# Altium schematic symbol library HW.SchLib: 328 symbols (part 3 of 10)
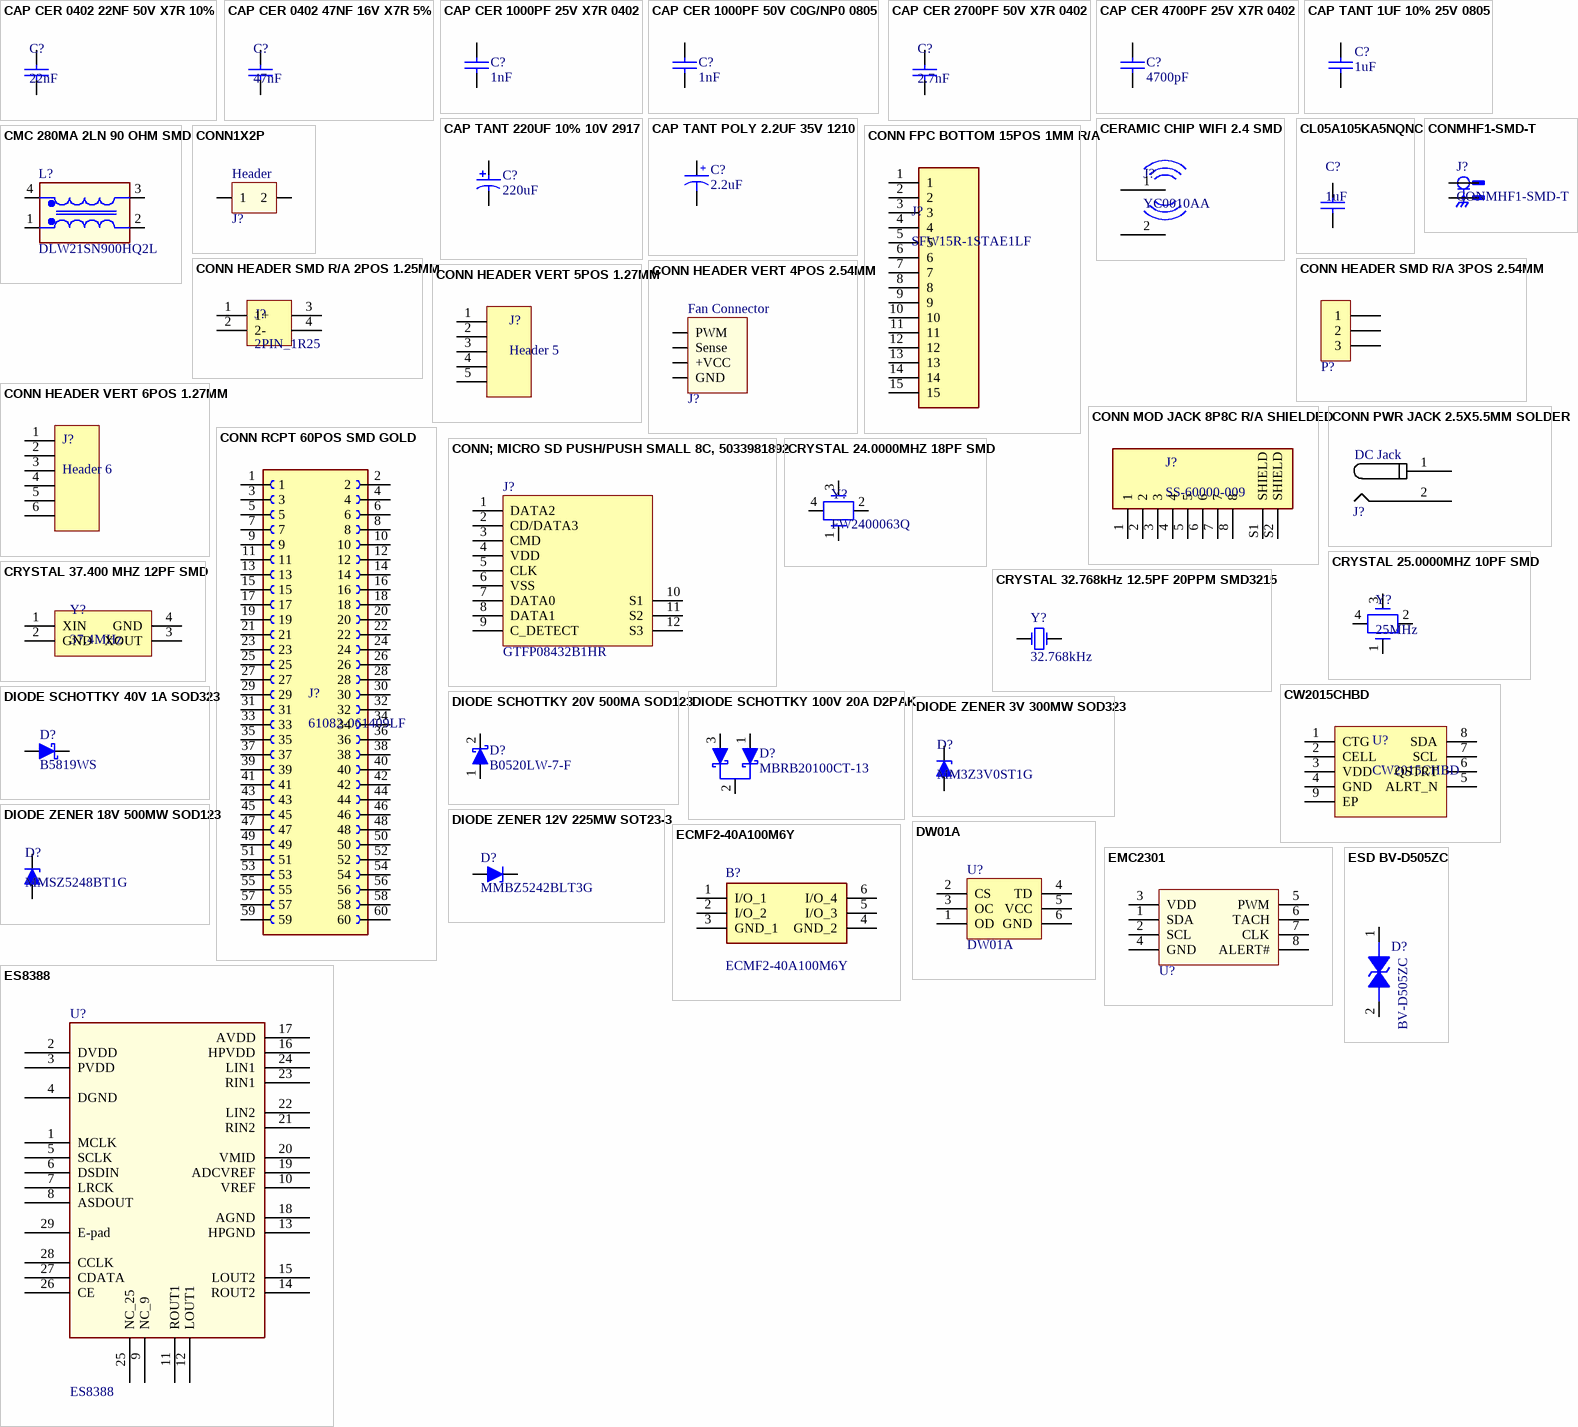
[diagram p25: symbols CAP CER 0402 22NF 50V X7R 10% to ESD BV-D505ZC]

## CAP CER 0402 22NF 50V X7R 10%
designator C?, comment 22nF
Multilayer Ceramic Capacitors MLCC - SMD/SMT 50V 0.022uF X7R 0402 10%; Manufacturer: KEMET; Manufacturer Part Number: C0402C223K5REC7411; Supplier 1: Digikey; RoHS: Yes; Category: Ceramic Capacitors; Stock 1: 6848; Pricing 1: 1=0.1, 10=0.066, 50=0.0382, 100=0.0296, 500=0.02228, 1000=0.0175, 2500=0.01591, 5000=0.01463 (USD); RoHS Compliant: Yes; ComponentLink1URL: https://api.kemet.com/component-edge/download/datasheet/C0402C223K5REC7411.pdf?src-supplier=Digikey; ComponentLink1Description: https://api.kemet.com/component-edge/download/datasheet/C0402C223K5REC7411.pdf?src-supplier=Digikey; Supplier Part Number 1: 399-C0402C223K5REC7411CT-ND
footprint C0402
pins: 1, 2

## CAP CER 0402 47NF 16V X7R 5%
designator C?, comment 47nF
Multilayer Ceramic Capacitors MLCC - SMD/SMT 16V 0.047uF X7R 0402 5% AEC-Q200; Manufacturer: KEMET; Manufacturer Part Number: C0402C473J4RECAUTO; Supplier 1: Digikey; RoHS: Yes; Category: Ceramic Capacitors; Stock 1: 7742; Pricing 1: 1=0.19, 10=0.127, 50=0.0758, 100=0.0596, 500=0.04406, 1000=0.03647, 2500=0.03394, 5000=0.03105 (USD); RoHS Compliant: Yes; ComponentLink1URL: https://api.kemet.com/component-edge/download/datasheet/C0402C473J4RECAUTO.pdf?src-supplier=Digikey; ComponentLink1Description: https://api.kemet.com/component-edge/download/datasheet/C0402C473J4RECAUTO.pdf?src-supplier=Digikey; Supplier Part Number 1: 399-C0402C473J4RECAUTOCT-ND
footprint C0402
pins: 1, 2

## CAP CER 1000PF 25V X7R 0402
designator C?, comment 1nF
CAP CER 1000PF 25V X7R 0402; Manufacturer PN: C0402C102J3RAC7867; Manufacturer: KEMET; JLCPCB PN: C3882120
footprint C0402 (Footprint not found)
pins: 1, 2

## CAP CER 1000PF 50V C0G/NP0 0805
designator C?, comment 1nF
50V 1nF X7R 0805 Multilayer Ceramic Capacitors MLCC - SMD/SMT ROHS; Manufacturer PN: FN21X102K500PXG; Manufacturer: Milliohm; JLCPCB PN: C2931457
footprint C0805B/2012MM (Chip Capacitor, 2-Leads, Body 2.0x1.3mm, IPC Medium Density)
pins: 1, 2

## CAP CER 2700PF 50V X7R 0402
designator C?, comment 2.7nF
Multilayer Ceramic Capacitor, 2700 pF, 50 V, ± 5%, X7R, 0402 [1005 Metric]; Manufacturer: Murata; Manufacturer Part Number: GRM155R71H272JA01D; Voltage Rating: 50V; Supplier 1: Mouser; RoHS: Yes; Category: Ceramic Capacitors; Stock 1: 68677; Pricing 1: 1=0.1, 10=0.019, 50=0.019, 100=0.011, 1000=0.008, 10000=0.005 (USD); Mount: Surface Mount; Case/Package: 0402; Case Code (Metric): 1005; Case Code (Imperial): 0402; Min Operating Temperature: -55°C; Max Operating Temperature: 125°C; Tolerance: 5%; Packaging: Cut Tape; Capacitance: 2.7nF; Voltage Rating (DC): 50V; Series: GRM; Length: 0.039inch; Width: 0.02inch; Thickness: 0.022inch; RoHS Compliant: Yes; ComponentLink1URL: https://search.murata.co.jp/Ceramy/image/img/A01X/G101/ENG/GRM155R71H272JA01-01.pdf?src-supplier=Digikey; ComponentLink1Description: https://search.murata.co.jp/Ceramy/image/img/A01X/G101/ENG/GRM155R71H272JA01-01.pdf?src-supplier=Digikey; Supplier Part Number 1: 81-GRM155R71H272JA1D
footprint C0402
pins: 1, 2

## CAP CER 4700PF 25V X7R 0402
designator C?, comment 4700pF
CAP CER 4700PF 25V X7R 0402; Manufacturer PN: CC0402JRX7R8BB472; Manufacturer: YAGEO; JLCPCB PN: C527005
footprint C0402 (Footprint not found)
pins: 1, 2

## CAP TANT 1UF 10% 25V 0805
designator C?, comment 1uF
1 µF Molded Tantalum Capacitors 25 V 0805 (2012 Metric) 8Ohm; Manufacturer PN: C3216X7R1E105KT000N; JLCPCB PN: C76660
footprint C0805B/2012MM (Chip Capacitor, 2-Leads, Body 2.0x1.3mm, IPC Medium Density)
pins: 1, 2

## CAP TANT 220UF 10% 10V 2917
designator C?, comment 220uF
Cap Tant Solid 220uF 10V D CASE 10% (7.3 X 4.3 X 2.8mm) SMD 7343-31 0.045 Ohm 125 C T/R; Manufacturer: KEMET; Manufacturer Part Number: T495D227K010ATE045; Supplier 1: Mouser; RoHS: Yes; Category: Tantalum Capacitors; Stock 1: 2387; Pricing 1: 1=2.87, 10=2.19, 50=2.03, 100=1.71, 1000=1.42, 10000=1.37 (USD); ComponentLink1URL: https://datasheet.ciiva.com/11793/0900766b812ba971-11793683.pdf?src-supplier=Rs; ComponentLink1Description: https://datasheet.ciiva.com/11793/0900766b812ba971-11793683.pdf?src-supplier=Rs; ComponentLink2URL: https://datasheet.ciiva.com/7668/kem-t2009-t495-7668188.pdf?src-supplier=Element14; ComponentLink2Description: https://datasheet.ciiva.com/7668/kem-t2009-t495-7668188.pdf?src-supplier=Element14; Supplier Part Number 1: 80-T495D227K10E045
footprint CAP_TANTAL_2917(7343-31) (Chip capacitor, Body 6.0x3.2mm, IPC High Density)
pins: 1, 2

## CAP TANT POLY 2.2UF 35V 1210
designator C?, comment 2.2uF
CAP TANT POLY 2.2UF 35V 1411; Manufacturer PN: TCJB225M035R0200E; Manufacturer: KYOCERA AVX; JLCPCB PN: C2158440
footprint CAP_TANT_TCJB225M035R0200E
pins: 1, 2
text: +

## CERAMIC CHIP WIFI 2.4 SMD
designator J?, comment YC0010AA
Antennas Embedded, 2400-2500 MHz, Wi-Fi (Bluetooth), Ceramic, -, -, SMD, 5.2 2.0 1.2; Manufacturer: Quectel Wireless Solutions; Supplier 1: Digikey; Manufacturer Part Number: YC0010AA; RoHS: No; Category: RF Antennas; Stock 1: 23380; Pricing 1: 1=0.55, 10=0.469, 25=0.4376, 100=0.35, 250=0.325, 500=0.275, 1000=0.2125 (USD); Supplier Part Number 1: 2958-YC0010AACT-ND
footprint YC0010AA
pins: 1 AT, 2 0

## CL05A105KA5NQNC
designator C?, comment 1uF
Multilayer Ceramic Capacitor, 1 uF, 25 V, ï¿½ 10%, X5R, 0402 [1005 Metric]; Manufacturer: Samsung; Manufacturer Part Number: CL05A105KA5NQNC; Voltage Rating: 25V; Supplier 1: Digikey; RoHS: Yes; Category: Ceramic Capacitors; Stock 1: 1895549; Pricing 1: 1=0.18, 10=0.124, 50=0.0742, 100=0.0584, 500=0.04312, 1000=0.0357, 2500=0.03323, 5000=0.0304 (USD); Mount: Surface Mount; Case/Package: 0402; Material: Ceramic; Case Code (Metric): 1005; Case Code (Imperial): 0402; Min Operating Temperature: -55°C; Max Operating Temperature: 85°C; Package Quantity: 10000; Series: CL; Capacitance: 1uF; Tolerance: 10%; Packaging: Tape and Reel; Dielectric: X5R; Construction: Flat; Length: 1mm; Width: 0.02inch; Height: 0.5mm; Thickness: 0.022inch; Depth: 0.5mm; Radiation Hardening: No; Lead Free: Lead Free; RoHS Compliant: Yes; ComponentLink1URL: https://datasheet.ciiva.com/25720/cl05a105ka5nqnc-25720771.pdf?src-supplier=Digikey; ComponentLink1Description: https://datasheet.ciiva.com/25720/cl05a105ka5nqnc-25720771.pdf?src-supplier=Digikey; ComponentLink2URL: https://datasheet.ciiva.com/3777/cl05a105ka5nqnc-3777709.pdf?src-supplier=Arrow+Electronics; ComponentLink2Description: https://datasheet.ciiva.com/3777/cl05a105ka5nqnc-3777709.pdf?src-supplier=Arrow+Electronics; ComponentLink3URL: https://datasheet.ciiva.com/29198/459147-da-01-en-vs-kondensator-0402-29198339.pdf?src-supplier=Conrad; ComponentLink3Description: https://datasheet.ciiva.com/29198/459147-da-01-en-vs-kondensator-0402-29198339.pdf?src-supplier=Conrad; Supplier Part Number 1: 1276-1445-1-ND
footprint C0402
pins: 1, 2

## CMC 280MA 2LN 90 OHM SMD
designator L?, comment DLW21SN900HQ2L
Ind Common Mode Choke Wirewound 90Ohm 25% 100MHz 280mA 0805 Embossed T/R; Manufacturer: Murata; Impedance: 90R; Number of Lines: 2; Shielding: Unshielded; DC Resistance (DCR): 410mR; Voltage Rating (DC): 20V; Supplier 1: Arrow Electronics; Manufacturer Part Number: DLW21SN900HQ2L; RoHS: Yes; Category: Common Mode Chokes; Stock 1: 18000; Pricing 1: 2000=0.2295, 4000=0.2273, 6000=0.225, 10000=0.2175, 24000=0.2153, 50000=0.2148 (USD); Mount: Surface Mount; Case/Package: 0805; Weight: 0.000388oz; Case Code (Imperial): 0805; Min Operating Temperature: -40°C; Max Operating Temperature: 85°C; Tolerance: 25%; Package Quantity: 1; Packaging: Tape and Reel; Current Rating: 280mA; Current: 280mA; Max DC Current: 280mA; Termination: SMD/SMT; Test Frequency: 100MHz; DC Current: 280mA; Series: EMIFIL®, DLW21S; Max Current Rating: 280mA; Length: 2mm; Width: 0.047inch; Height: 0.055inch; Depth: 1.2mm; Radiation Hardening: No; Military Standard: Not; Reach SVHC Compliant: No; Lead Free: Lead Free; RoHS Compliant: Yes; ComponentLink1URL: https://datasheet.ciiva.com/3068/l0114s0133dlw21s-3068656.pdf?src-supplier=Avnet; ComponentLink1Description: https://datasheet.ciiva.com/3068/l0114s0133dlw21s-3068656.pdf?src-supplier=Avnet; ComponentLink2URL: https://datasheet.ciiva.com/6216/l0114e-6216255.pdf?src-supplier=Digi-Key; ComponentLink2Description: https://datasheet.ciiva.com/6216/l0114e-6216255.pdf?src-supplier=Digi-Key; ComponentLink3URL: https://datasheet.ciiva.com/4952/muratadl-plseries-202927-4952310.pdf?src-supplier=Mouser; ComponentLink3Description: https://datasheet.ciiva.com/4952/muratadl-plseries-202927-4952310.pdf?src-supplier=Mouser; ComponentLink4URL: https://datasheet.ciiva.com/18183/getdatasheetpartid-228875-18183367.pdf?src-supplier=Verical; ComponentLink4Description: https://datasheet.ciiva.com/18183/getdatasheetpartid-228875-18183367.pdf?src-supplier=Verical; Supplier Part Number 1: DLW21SN900HQ2L
footprint IND_DLW21S_0805_MUR
pins: 1, 2, 3, 4

## CONMHF1-SMD-T
designator J?
U.FL/MHF1 Jack 50 Ohm PCB Surface Mount; MF: Linx Technologies Inc.; SnapEDA_Link: https://www.snapeda.com/parts/CONMHF1-SMD-T/Linx/view-part/?ref=snap; Package: None; Value: *; MP: CONMHF1-SMD-T; Check_prices: https://www.snapeda.com/parts/CONMHF1-SMD-T/Linx/view-part/?ref=eda
footprint LINX_CONMHF1-SMD-T
pins: 1, S1 2, S2 2, S3 2

## CONN1X2P
designator J?, comment Header
Header 1x2P; Part Number: CO0012; ManfactPart: G800W306018EU; ID: 12; RefVal: Header
footprint 1X2P_2.54mm
pins: 1, 2

## CONN FPC BOTTOM 15POS 1MM R/A
designator J?, comment SFW15R-1STAE1LF
Conn FFC/FPC Connector SKT 15 POS 1mm Solder RA SMD Embossed T/R; Manufacturer: Amphenol ICC / FCI; Actuator Material: Glass,Polyphenylene; Voltage Rating (AC): 100V; Current Rating: 1A; Number of Positions: 15; Contact Location: Bottom; Insulation Resistance: 500MR; Supplier 1: Digikey; Manufacturer Part Number: SFW15R-1STAE1LF; RoHS: Yes; Category: FFC / FPC; Stock 1: 4328; Pricing 1: 1=0.98, 10=0.745, 25=0.6696, 50=0.6184, 100=0.5716, 250=0.51616, 500=0.47868, 1000=0.44462 (USD); Mount: Surface Mount; Contact Material: Bronze; Contact Plating: Gold; Housing Color: Brown; Housing Material: Polyphenylene; Min Operating Temperature: -55°C; Max Operating Temperature: 105°C; Packaging: Tape and Reel; Package Quantity: 2000; Number of Rows: 1; Voltage Rating: 100V; Termination: Solder; Number of Contacts: 15; Orientation: Right Angle; Series: SFW-R; Length: 20.8mm; Pitch: 1mm; Depth: 5.5mm; Flammability Rating: UL94 V-0; RoHS Compliant: Yes; ComponentLink1URL: https://datasheet.ciiva.com/18564/sfw12alf-18564188.pdf?src-supplier=Digikey; ComponentLink1Description: https://datasheet.ciiva.com/18564/sfw12alf-18564188.pdf?src-supplier=Digikey; ComponentLink2URL: https://datasheet.ciiva.com/10368/sfw12alf-10368693.pdf?src-supplier=Avnet; ComponentLink2Description: https://datasheet.ciiva.com/10368/sfw12alf-10368693.pdf?src-supplier=Avnet; Supplier Part Number 1: 609-SFW15R-1STAE1LFCT-ND
footprint AMPHENOL_SFW15R-3STAE5LF
pins: 1, 2, 3, 4, 5, 6, 7, 8, 9, 10, 11, 12, 13, 14, 15

## CONN HEADER SMD R/A 2POS 1.25MM
designator J?, comment 2PIN_1R25
Conn Shrouded Header (4 Sides) HDR 2 POS 1.25mm Solder RA Side Entry SMD T/R; Manufacturer: Amphenol ICC / FCI; Manufacturer Part Number: 10114830-10102LF; Supplier 1: Avnet; RoHS: No; Category: Connectors; Stock 1: 3; Pricing 1: 1=0.256 (USD); ComponentLink1URL: https://datasheet.ciiva.com/18670/125-wtb-datasheet-18670122.pdf?src-supplier=Digikey; ComponentLink1Description: https://datasheet.ciiva.com/18670/125-wtb-datasheet-18670122.pdf?src-supplier=Digikey; ComponentLink2URL: https://datasheet.ciiva.com/8046/1581884-8046342.pdf?src-supplier=Element14; ComponentLink2Description: https://datasheet.ciiva.com/8046/1581884-8046342.pdf?src-supplier=Element14; Supplier Part Number 1: 65AC3124
pins: 1 1+, 2 2-, 3, 4

## CONN HEADER SMD R/A 3POS 2.54MM
designator P?, comment BG301-03-A-0540-L-B  (value not drawn)
Board to Board & Mezzanine Connectors 3w, 2.54mm Pth Header, SIL, SMT, Horiz, GF, LCP Natural, T+R+C; Manufacturer: Global Connector Technology; Supplier 1: Newark; Manufacturer Part Number: BG301-03-A-0540-L-B; RoHS: Yes; Category: Connectors; Stock 1: 130; Pricing 1: 10=0.584, 25=0.529, 50=0.476, 100=0.457, 250=0.421, 500=0.403 (USD); ComponentLink1URL: http://www.farnell.com/datasheets/1913461.pdf?src-supplier=Farnell; ComponentLink1Description: http://www.farnell.com/datasheets/1913461.pdf?src-supplier=Farnell; ComponentLink2URL: https://datasheet.octopart.com/BG301-03-A-0540-L-B-Global-Connector-Technology-datasheet-77992236.pdf?src-supplier=Future+Electronics; ComponentLink2Description: https://datasheet.octopart.com/BG301-03-A-0540-L-B-Global-Connector-Technology-datasheet-77992236.pdf?src-supplier=Future+Electronics; ComponentLink3URL: http://www.gct.co/pcb-board-to-board/pdf/BG301.pdf?src-supplier=Future+Electronics; ComponentLink3Description: http://www.gct.co/pcb-board-to-board/pdf/BG301.pdf?src-supplier=Future+Electronics; ComponentLink4URL: https://gct.co/files/drawings/bg301.pdf?src-supplier=Digikey; ComponentLink4Description: https://gct.co/files/drawings/bg301.pdf?src-supplier=Digikey; ComponentLink5URL: https://datasheet.octopart.com/BG301-03-A-0540-L-B-Global-Connector-Technology-datasheet-41230415.pdf?src-supplier=Element14; ComponentLink5Description: https://datasheet.octopart.com/BG301-03-A-0540-L-B-Global-Connector-Technology-datasheet-41230415.pdf?src-supplier=Element14; ComponentLink6URL: https://datasheet.octopart.com/BG301-03-A-0540-L-B-Global-Connector-Technology-datasheet-32014451.pdf?src-supplier=Sager+Electronics; ComponentLink6Description: https://datasheet.octopart.com/BG301-03-A-0540-L-B-Global-Connector-Technology-datasheet-32014451.pdf?src-supplier=Sager+Electronics; Supplier Part Number 1: 24AC7639
footprint HDR1X3 (Connector; Header; 3 Position)
pins: 1, 2, 3

## CONN HEADER VERT 4POS 2.54MM
designator J?, comment Fan Connector
KK 254 Vertical Header, with Friction Lock, 4 Circuits, PC Tail Length 3.50mm, Bag; Part Number: CO0010; ManfactPart: 470531000; Manufacturer: Molex; Manufacturer Part Number: 47053-1000; ID: 10; Plating: 151ConductorMaterial; Current Rating: 4A; Voltage Rating: 250V; Number of Positions: 4; Gender: Male; Pitch: 2.54mm; Glow Wire Compliant: Non-compliant; Supplier 1: Mouser; RoHS: Yes; Category: Headers and Wire Housings; Stock 1: 20373; Pricing 1: 1=0.55, 10=0.486, 50=0.486, 100=0.401, 1000=0.287, 10000=0.253 (USD); Mount: Through Hole; Contact Material: Brass,Copper; Contact Plating: Tin; Housing Color: Beige; Housing Material: Nylon; Min Operating Temperature: 0°C; Max Operating Temperature: 75°C; Number of Rows: 1; Packaging: Bulk; Package Quantity: 12000; Termination: Through Hole; Number of Contacts: 4; Orientation: Vertical; Voltage Rating (DC): 250V; Number of Circuits: 4; Series: 47053; Length: 10.2mm; Depth: 5.84mm; Halogen Free: Low Halogen; RoHS Compliant: Yes; Reach SVHC Compliant: Unknown; Supplier Part Number 1: 538-47053-1000; RefVal: Fan Connector
footprint 470531000
pins: 1 PWM, 2 Sense, 3 +VCC (power), 4 GND (power)

## CONN HEADER VERT 5POS 1.27MM
designator J?, comment Header 5
Conn Unshrouded HDR 5 POS 1.27mm Solder ST Thru-Hole Box; Manufacturer: Harwin; Manufacturer Part Number: M50-3530542; Number of Positions: 5; Current Rating: 1A; Supplier 1: Digikey; RoHS: Yes; Category: Connectors; Stock 1: 4810; Pricing 1: 1=0.27, 10=0.232, 100=0.1786, 500=0.1511, 1000=0.12362, 5000=0.10989, 10000=0.09959 (USD); Mount: Through Hole; Contact Material: Brass; Contact Shape: Square; Insulation Material: Nylon; Insulation Color: Black; Contact Finish - Mating: GOLD; Min Operating Temperature: -40°C; Max Operating Temperature: 105°C; Connector Type: Header; Fastening Type: Pull; Packaging: Bulk; Number of Rows: 1; Termination: Solder; Series: Archer M50; Contact Type: Male Pin; Flammability Rating: UL94 V-0; RoHS Compliant: Yes; ComponentLink1URL: https://cdn.harwin.com/pdfs/Harwin_PC_Connectors_Archer.pdf?src-supplier=Digikey; ComponentLink1Description: https://cdn.harwin.com/pdfs/Harwin_PC_Connectors_Archer.pdf?src-supplier=Digikey; Supplier Part Number 1: 952-3601-ND
footprint HARWIN_M50-3530542
pins: 1, 2, 3, 4, 5

## CONN HEADER VERT 6POS 1.27MM
designator J?, comment Header 6
Conn Unshrouded Header HDR 6 POS 1.27mm Solder ST Thru-Hole Box; Manufacturer: Harwin; Manufacturer Part Number: M50-3530642; Number of Positions: 6; Supplier 1: Digikey; RoHS: Yes; Category: Headers and Wire Housings; Stock 1: 14668; Pricing 1: 1=0.29, 10=0.245, 100=0.1905, 500=0.16332, 1000=0.1361, 5000=0.11666, 10000=0.10888 (USD); Mount: Through Hole; Contact Material: Brass; Contact Shape: Square; Contact Finish - Mating: GOLD; Insulation Material: Nylon; Insulation Color: Black; Min Operating Temperature: -40°C; Max Operating Temperature: 105°C; Connector Type: Header; Fastening Type: Pull; Series: Archer M50; Packaging: Bulk; Contact Type: Male Pin; Number of Rows: 1; Termination: Solder; RoHS Compliant: Yes; Flammability Rating: UL94 V-0; ComponentLink1URL: https://cdn.harwin.com/pdfs/Harwin_PC_Connectors_Archer.pdf?src-supplier=Digikey; ComponentLink1Description: https://cdn.harwin.com/pdfs/Harwin_PC_Connectors_Archer.pdf?src-supplier=Digikey; Supplier Part Number 1: 952-3602-ND
footprint HARWIN_M50-3530642
pins: 1, 2, 3, 4, 5, 6

## CONN MOD JACK 8P8C R/A SHIELDED
designator J?, comment SS-60000-009
Modular Connectors / Ethernet Connectors RJ45 Connector; Manufacturer: Bel; Voltage Rating: 150V; Current Rating: 1.5A; Supplier 1: Arrow Electronics; Manufacturer Part Number: SS-60000-009; RoHS: Yes; Category: Modular / Ethernet Connectors; Stock 1: 50; Pricing 1: 1=3.68, 10=3.647, 25=3.613, 50=3.579 (USD); Material: 4896ConductorMaterial; Insulation Material: 4896ConductorMaterial; Lead Free: 5697LeadFree; ComponentLink1URL: https://datasheet.ciiva.com/14118/ss-60000-009-eng-tds-14118903.pdf?src-supplier=Distrelec; ComponentLink1Description: https://datasheet.ciiva.com/14118/ss-60000-009-eng-tds-14118903.pdf?src-supplier=Distrelec; ComponentLink2URL: https://datasheet.ciiva.com/9394/ct600024-9394157.pdf?src-supplier=Avnet; ComponentLink2Description: https://datasheet.ciiva.com/9394/ct600024-9394157.pdf?src-supplier=Avnet; ComponentLink3URL: https://datasheet.ciiva.com/11726/0900766b80b1ed68-11726072.pdf?src-supplier=Rs; ComponentLink3Description: https://datasheet.ciiva.com/11726/0900766b80b1ed68-11726072.pdf?src-supplier=Rs; Supplier Part Number 1: SS-60000-009
footprint BEL_SS-60000-009
pins: 1, 2, 3, 4, 5, 6, 7, 8, S1 SHIELD, S2 SHIELD

## CONN PWR JACK 2.5X5.5MM SOLDER
designator J?, comment RefVal: DC Jack  (hidden comment: PJ-082BH)
2.5 x 6.5 mm, 10.0 A, Horizontal, Through Hole, Shielded, Dc Power Jack Connector; Part Number: CO0015; Manufacturer: CUI Devices; ID: 22; Body Color: Black; Gender: Male; ManfactPart: PJ-082BH; Supplier 1: Digikey; Manufacturer Part Number: PJ-082BH; RoHS: Yes; Category: Power Connectors; Stock 1: 7429; Pricing 1: 1=1.94, 10=1.69, 25=1.618, 50=1.582, 100=1.5102 (USD); Mount: Through Hole; Contact Plating: Silver; Contact Material: Brass; Housing Material: Nylon; Min Operating Temperature: -25°C; Max Operating Temperature: 85°C; Connector Type: Jack; Termination: Solder; Shielding: Shielded; Series: -; Flammability Rating: UL94 V-0; ComponentLink1URL: https://www.cuidevices.com/product/resource/digikeypdf/pj-082bh.pdf?src-supplier=Digikey; ComponentLink1Description: https://www.cuidevices.com/product/resource/digikeypdf/pj-082bh.pdf?src-supplier=Digikey; ComponentLink2URL: https://datasheet.octopart.com/PJ-082BH-CUI-Devices-datasheet-169018902.pdf?src-supplier=Future+Electronics; ComponentLink2Description: https://datasheet.octopart.com/PJ-082BH-CUI-Devices-datasheet-169018902.pdf?src-supplier=Future+Electronics; Supplier Part Number 1: CP-082BHCT-ND
footprint PJ-082BH
pins: 1, 2

## CONN RCPT 60POS SMD GOLD
designator J?, comment 61082-061409LF
BergStakÂ® 0.80mm Pitch, Receptacle, Vertical, Double Row, 60 Positions.; MF: Amphenol ICC; SnapEDA_Link: https://www.snapeda.com/parts/61082-061409LF/Amphenol+FCI/view-part/?ref=snap; Package: None; Value: *; MP: 61082-061409LF; Check_prices: https://www.snapeda.com/parts/61082-061409LF/Amphenol+FCI/view-part/?ref=eda
footprint AMPHENOL_61082-061409LF
pins: 1, 2, 3, 4, 5, 6, 7, 8, 9, 10, 11, 12, 13, 14, 15, 16, 17, 18, 19, 20, 21, 22, 23, 24, 25, 26, 27, 28, 29, 30, 31, 32, 33, 34, 35, 36, 37, 38, 39, 40, 41, 42, 43, 44, 45, 46, 47, 48, 49, 50, 51, 52, 53, 54, 55, 56, 57, 58, 59, 60

## CONN; MICRO SD PUSH/PUSH SMALL 8C, 5033981892
designator J?, comment GTFP08432B1HR
MICRO SD PUSH/PUSH SMALL 8C; MANUFACTURER1: Amphenol ICC (Commercial Products); Current Rating: 500 mA; Voltage Rating: 10 VAC/DC; Supplier 1: Digi-Key; Stock 1: 31804; Pricing 1: 1=2.53, 10=2.292, 25=2.1516, 50=2.0582, 100=1.9647, 250=1.7776, 500=1.6372, 1000=1.4033 (USD); Product Category: Memory Card Connectors; RoHS: Details; Category: CONN; Packaging: Reel; Series: 503398; Factory Pack Quantity: 2400; MANUFACTURER1_PART#: GTFP08432B1HR; ComponentLink2URL: https://datasheet.ciiva.com/16655/5033981892-memory-card-socket-16655604.pdf; LINK: https://www.digikey.com/en/products/detail/amphenol-icc-commercial-products/GTFP08432B1HR/13683218?s=N4IgTCBcDaIOIBUBiAFADADgCwGYwCEBGACQCUQBdAXyA; ComponentLink3URL: https://datasheet.ciiva.com/29723/5033981892-sd-29723401.pdf; ComponentLink3Description: https://datasheet.ciiva.com/29723/5033981892-sd-29723401.pdf; ComponentLink4URL: https://datasheet.ciiva.com/22744/1740946-22744573.pdf; ComponentLink4Description: https://datasheet.ciiva.com/22744/1740946-22744573.pdf; Supplier Part Number 1: WM11190CT-ND
footprint AMPHENOL_GTFP08432B1HR
pins: 1 DATA2, 2 CD/DATA3, 3 CMD, 4 VDD, 5 CLK, 6 VSS, 7 DATA0, 8 DATA1, 9 C_DETECT, 10 S1, 11 S2, 12 S3

## CRYSTAL 24.0000MHZ 18PF SMD
designator Y?, comment FW2400063Q
Crystal 24MHz ±15ppm (Tol) ±50ppm (Stability) 18pF FUND 120Ohm 4-Pin Mini-CSMD; Manufacturer: Diodes; Supplier 1: Arrow Electronics; Manufacturer Part Number: FW2400063Q; RoHS: No; Category: LDO; Stock 1: 6000; Pricing 1: 3000=0.4034, 6000=0.3986, 9000=0.3867, 15000=0.3775, 24000=0.3713 (USD); Supplier Part Number 1: FW2400063Q
footprint XC2016
pins: 1, 2, 3, 4

## CRYSTAL 25.0000MHZ 10PF SMD
designator Y?, comment 25MHz
Crystal 25MHz ±25ppm (Tol) ±50ppm (Stability) 10pF FUND 100Ohm Automotive 4-Pin Mini-SMD T/R; Manufacturer: ECS International; Manufacturer Part Number: ECS-250-10-37Q-AES-TR; Supplier 1: Digikey; RoHS: Yes; Category: Crystals; Stock 1: 2304; Pricing 1: 1=0.92, 10=0.813, 50=0.76, 100=0.6716, 500=0.6363, 1000=0.53025 (USD); ComponentLink1URL: https://www.ecsxtal.com/store/pdf/ECX-1637Q.pdf?src-supplier=Digikey; ComponentLink1Description: https://www.ecsxtal.com/store/pdf/ECX-1637Q.pdf?src-supplier=Digikey; ComponentLink2URL: https://datasheet.octopart.com/ECS-250-10-37Q-AES-TR-ECS-International-datasheet-130008821.pdf?src-supplier=Master+Electronics; ComponentLink2Description: https://datasheet.octopart.com/ECS-250-10-37Q-AES-TR-ECS-International-datasheet-130008821.pdf?src-supplier=Master+Electronics; Supplier Part Number 1: XC2425CT-ND
footprint XC2016
pins: 1, 2, 3, 4

## CRYSTAL 32.768kHz 12.5PF 20PPM SMD3215
designator Y?, comment 32.768kHz
FC-135 Series 32.768 kHz ±20 ppm 9 pF -40 to +85 °C Surface Mount Crystal; Manufacturer: Seiko Epson; Manufacturer PN: FC-135 32.7680KA-A; Manufacturer Part Number: FC-135 32.7680KA-AC0; Datasheet Link: https://datasheet.lcsc.com/lcsc/2304140030_Seiko-Epson-FC-135-32-7680KA-A_C1669857.pdf; Distributor: LCSC; Distributor PN: C1669857; Price: $0.2274; Sale Link: https://www.lcsc.com/product-detail/Crystals_Seiko-Epson-FC-135-32-7680KA-A_C1669857.html; Value: 32.768kHz; Supplier 1: Digikey; RoHS: Yes; Category: Crystals; Stock 1: 148705; Pricing 1: 1=0.61, 10=0.505, 50=0.4544, 100=0.404, 500=0.3838 (USD); ComponentLink1URL: https://support.epson.biz/td/api/doc_check.php?dl=brief_FC-135&amp;lang=en&src-supplier=Digikey; ComponentLink1Description: https://support.epson.biz/td/api/doc_check.php?dl=brief_FC-135&amp;lang=en&src-supplier=Digikey; Supplier Part Number 1: SER4084CT-ND
footprint CRYSTALL_SMD_3215
pins: 1 OSC1, 2 OSC2

## CRYSTAL 37.400 MHZ 12PF SMD
designator Y?, comment 37.4MHz
Crystals 37.400 MHz 12pF ECX-1637B +/-10/10 ppm -30 - +85C +/-1 ppm Aging 2016 4-SMD RoHS; Manufacturer: ECS International; Manufacturer Part Number: ECS-374-12-37B-CKY-TR; Supplier 1: Mouser; RoHS: No; Category: Uncategorized; Stock 1: 550; Pricing 1: 1=0.51, 10=0.425, 50=0.425, 100=0.34, 1000=0.272, 10000=0.238 (USD); Supplier Part Number 1: 520-374-12-37B-CKYTR
footprint XC2016
pins: 1 XIN, 2 GND, 3 XOUT, 4 GND

## CW2015CHBD
designator U?
footprint TDFN 2x3-8L
pins: 1 CTG, 2 CELL, 3 VDD, 4 GND, 5 ALRT_N, 6 QSTRT, 7 SCL, 8 SDA, 9 EP

## DIODE SCHOTTKY 20V 500MA SOD123
designator D?, comment B0520LW-7-F
DIODE SCHOTTKY 20V 500MA SOD123; Manufacturer: Diodes Incorporated; Manufacturer PN: B0520LW-7-F; JLCPCB PN: C155367
footprint DIO_SCHOTT_B0520LW-7-F
pins: 1 A, 2 C

## DIODE SCHOTTKY 40V 1A SOD323
designator D?, comment B5819WS
Rectifier Diode, Schottky, 1 Phase, 1 Element, 1A, 40V V(RRM), Silicon; Manufacturer: MCC; Manufacturer Part Number: B5819WS-TP; Max Surge Current: 10A; Forward Voltage: 900mV; Max Reverse Leakage Current: 1mA; Capacitance: 48pF; Max Reverse Current: 7uA; Supplier 1: Arrow Electronics; RoHS: Yes; Category: Rectifier Diodes; Stock 1: 75000; Pricing 1: 3000=0.0241 (USD); Mount: Surface Mount; Number of Pins: 2; Min Operating Temperature: -65°C; Max Operating Temperature: 125°C; Packaging: Tape and Reel; Average Rectified Current: 1A; Peak Non-Repetitive Surge Current: 10A; Max Reverse Voltage (DC): 40V; Series: -; Forward Current: 1A; Max Forward Surge Current (Ifsm): 10A; Reverse Voltage: 40V; Height: 1.15mm; Radiation Hardening: No; RoHS Compliant: Yes; Lead Free: Lead Free; ComponentLink1URL: https://datasheet.ciiva.com/4715/b5817ws-b5819wssod-323-48861-4715941.pdf?src-supplier=Mouser; ComponentLink1Description: https://datasheet.ciiva.com/4715/b5817ws-b5819wssod-323-48861-4715941.pdf?src-supplier=Mouser; ComponentLink2URL: https://datasheet.ciiva.com/15200/getdatasheetpartid-184930-15200423.pdf?src-supplier=Verical; ComponentLink2Description: https://datasheet.ciiva.com/15200/getdatasheetpartid-184930-15200423.pdf?src-supplier=Verical; ComponentLink3URL: https://datasheet.ciiva.com/912/b5817ws-b5819wssod-323-912736.pdf?src-supplier=Digikey; ComponentLink3Description: https://datasheet.ciiva.com/912/b5817ws-b5819wssod-323-912736.pdf?src-supplier=Digikey; ComponentLink4URL: https://datasheet.ciiva.com/912/b5817ws-b5819wssod-323-912737.pdf?src-supplier=Digikey; ComponentLink4Description: https://datasheet.ciiva.com/912/b5817ws-b5819wssod-323-912737.pdf?src-supplier=Digikey; ComponentLink5URL: https://datasheet.ciiva.com/912/b5817ws-b5819wssod-323-912735.pdf?src-supplier=Digikey; ComponentLink5Description: https://datasheet.ciiva.com/912/b5817ws-b5819wssod-323-912735.pdf?src-supplier=Digikey; Supplier Part Number 1: B5819WS-TP
footprint SOD-323 (diode)
pins: 1 A, 2 C

## DIODE SCHOTTKY 100V 20A D2PAK
designator D?, comment MBRB20100CT-13
DIODE SCHOTTKY 100V 20A D2PAK; Manufacturer: Diodes Incorporated; Manufacturer PN: MBRB20100CT-13; JLCPCB PN: C460888
footprint DIO_SCHOTT_MBRB20100CT-13
pins: 1 A1, 2 C, 3 A2

## DIODE ZENER 3V 300MW SOD323
designator D?, comment MM3Z3V0ST1G
MMBZ5243BL Series 225 mW 10 mA 13 V SMT Zener Voltage Regulator - SOT-23-3; Manufacturer: ON Semiconductor; Manufacturer Part Number: MMBZ5243BLT1G; Supplier 1: Future Electronics; RoHS: Yes; Category: Zener Diodes; Stock 1: 42000; Pricing 1: 3000=0.0145, 12000=0.0139, 30000=0.0135, 75000=0.0131, 120000=0.0125 (USD); ComponentLink1URL: https://datasheet.ciiva.com/30478/0900766b81276aeb-30478402.pdf?src-supplier=Rs; ComponentLink1Description: https://datasheet.ciiva.com/30478/0900766b81276aeb-30478402.pdf?src-supplier=Rs; ComponentLink2URL: https://datasheet.ciiva.com/15142/getdatasheetpartid-86847-15142523.pdf?src-supplier=Verical; ComponentLink2Description: https://datasheet.ciiva.com/15142/getdatasheetpartid-86847-15142523.pdf?src-supplier=Verical; ComponentLink3URL: https://datasheet.ciiva.com/8347/mmbz5221blt1-d-8347766.pdf?src-supplier=Avnet; ComponentLink3Description: https://datasheet.ciiva.com/8347/mmbz5221blt1-d-8347766.pdf?src-supplier=Avnet; ComponentLink4URL: https://datasheet.ciiva.com/10630/mmbz5221blt1-d-10630262.pdf?src-supplier=Avnet; ComponentLink4Description: https://datasheet.ciiva.com/10630/mmbz5221blt1-d-10630262.pdf?src-supplier=Avnet; ComponentLink5URL: https://datasheet.ciiva.com/894/mmbz5221blt1-d-894818.pdf?src-supplier=Digikey; ComponentLink5Description: https://datasheet.ciiva.com/894/mmbz5221blt1-d-894818.pdf?src-supplier=Digikey; ComponentLink6URL: https://datasheet.ciiva.com/894/mmbz5221blt1-d-894819.pdf?src-supplier=Digikey; ComponentLink6Description: https://datasheet.ciiva.com/894/mmbz5221blt1-d-894819.pdf?src-supplier=Digikey; ComponentLink7URL: https://datasheet.ciiva.com/894/mmbz5221blt1-d-894820.pdf?src-supplier=Digikey; ComponentLink7Description: https://datasheet.ciiva.com/894/mmbz5221blt1-d-894820.pdf?src-supplier=Digikey; ComponentLink8URL: https://datasheet.ciiva.com/22626/1707240-22626952.pdf?src-supplier=Element14; ComponentLink8Description: https://datasheet.ciiva.com/22626/1707240-22626952.pdf?src-supplier=Element14; ComponentLink9URL: https://datasheet.ciiva.com/8027/1707240-8027055.pdf?src-supplier=Element14; ComponentLink9Description: https://datasheet.ciiva.com/8027/1707240-8027055.pdf?src-supplier=Element14; Supplier Part Number 1: 8159884
footprint SOD-323 (diode)
pins: 1 A, 2 C

## DIODE ZENER 12V 225MW SOT23-3
designator D?, comment MMBZ5242BLT3G
Diode Zener Single 12V 5% 300mW 3-Pin SOT-23 T/R; Manufacturer: ON Semiconductor; Max Power Dissipation: 225mW; Impedance: 30R; Max Reverse Leakage Current: 1uA; Supplier 1: Future Electronics; Manufacturer Part Number: MMBZ5242BLT3G; RoHS: Yes; Category: Zener Diodes; Stock 1: 60000; Pricing 1: 10000=0.0149, 30000=0.0143, 40000=0.0142, 100000=0.0138, 150000=0.0134 (USD); Case/Package: SOT-23-3; Number of Pins: 3; Min Operating Temperature: -65°C; Max Operating Temperature: 150°C; Package Quantity: 10000; Packaging: Tape and Reel; Zener Voltage: 12V; Voltage Tolerance: 5%; Power Dissipation: 300mW; Tolerance: 5%; Series: Automotive, AEC-Q101; Lead Free: Lead Free; RoHS Compliant: Yes; ComponentLink1URL: https://datasheet.ciiva.com/24020/mmbz5221blt1-d-24020127.pdf?src-supplier=Mouser; ComponentLink1Description: https://datasheet.ciiva.com/24020/mmbz5221blt1-d-24020127.pdf?src-supplier=Mouser; Supplier Part Number 1: 8178502
footprint SOT23-3
pins: 1 A, 3 C

## DIODE ZENER 18V 500MW SOD123
designator D?, comment MMSZ5248BT1G
Diode; Zener; Standard; Vr 18V; If 10mA; Pkg SOD-123; Vf 0.9V; Tj +150degc; Pd 500mW; Manufacturer: ON Semiconductor; Material: 4239ConductorMaterial; Supplier 1: Future Electronics; Manufacturer Part Number: MMSZ5248BT1G; RoHS: Yes; Category: Zener Diodes; Stock 1: 288000; Pricing 1: 3000=0.0165, 9000=0.016, 30000=0.0153, 60000=0.015, 120000=0.0144 (USD); Voltage Rating (DC): 18V; Power Rating: 500mW; Lead Free: 5697LeadFree; ComponentLink1URL: https://datasheet.ciiva.com/27056/2011782-27056170.pdf?src-supplier=Jameco; ComponentLink1Description: https://datasheet.ciiva.com/27056/2011782-27056170.pdf?src-supplier=Jameco; ComponentLink2URL: https://datasheet.ciiva.com/15142/getdatasheetpartid-72713-15142401.pdf?src-supplier=Verical; ComponentLink2Description: https://datasheet.ciiva.com/15142/getdatasheetpartid-72713-15142401.pdf?src-supplier=Verical; ComponentLink3URL: https://datasheet.ciiva.com/8026/86126-8026859.pdf?src-supplier=Element14; ComponentLink3Description: https://datasheet.ciiva.com/8026/86126-8026859.pdf?src-supplier=Element14; ComponentLink4URL: https://datasheet.ciiva.com/8026/86126-8026860.pdf?src-supplier=Element14; ComponentLink4Description: https://datasheet.ciiva.com/8026/86126-8026860.pdf?src-supplier=Element14; ComponentLink5URL: https://datasheet.ciiva.com/8346/mmsz5221bt1-d-8346040.pdf?src-supplier=Avnet; ComponentLink5Description: https://datasheet.ciiva.com/8346/mmsz5221bt1-d-8346040.pdf?src-supplier=Avnet; ComponentLink6URL: https://datasheet.ciiva.com/8347/mmsz5221bt1-d-8347935.pdf?src-supplier=Avnet; ComponentLink6Description: https://datasheet.ciiva.com/8347/mmsz5221bt1-d-8347935.pdf?src-supplier=Avnet; ComponentLink7URL: https://datasheet.ciiva.com/894/mmsz5221bt1-d-894887.pdf?src-supplier=Digikey; ComponentLink7Description: https://datasheet.ciiva.com/894/mmsz5221bt1-d-894887.pdf?src-supplier=Digikey; ComponentLink8URL: https://datasheet.ciiva.com/894/mmsz5221bt1-d-894888.pdf?src-supplier=Digikey; ComponentLink8Description: https://datasheet.ciiva.com/894/mmsz5221bt1-d-894888.pdf?src-supplier=Digikey; ComponentLink9URL: https://datasheet.ciiva.com/894/mmsz5221bt1-d-894889.pdf?src-supplier=Digikey; ComponentLink9Description: https://datasheet.ciiva.com/894/mmsz5221bt1-d-894889.pdf?src-supplier=Digikey; Supplier Part Number 1: 3159899
footprint SOD-123 (SOD123, 2-Leads, Body 2.6x1.6mm, Pitch 3.05mm, IPC High Density)
pins: 1 A, 2 C

## DW01A
designator U?
IC BATT PROT LI-ION 1CELL SOT-23-6
footprint SOT-23-6
pins: 1 OD, 2 CS, 3 OC, 4 TD, 5 VCC, 6 GND

## ECMF2-40A100M6Y
designator B?
Automotive common mode filter for differential channels with integrated ESD protection; Manufacturer_Name: STMicroelectronics; Geometry.Height: 0.8mm; Mouser Part Number: *; Mouser Price/Stock: *; Manufacturer_Part_Number: ECMF2-40A100M6Y; Datasheet Link: https://www.st.com/resource/en/datasheet/ecmf2-40a100m6y.pdf
footprint ECMF240A100M6Y
pins: 1 I/O_1, 2 I/O_2, 3 GND_1, 4 GND_2, 5 I/O_3, 6 I/O_4

## EMC2301
designator U?  (value not drawn)
Board Mount Temperature Sensors Single RPB-Based PWM Fan Speed CNTRL; Part Number: IC0054; ManfactPart: EMC2301-1-ACZL-TR; ID: 54; RefVal: EMC2301
footprint MSOP-8_3X3
pins: 1 SDA, 2 SCL, 3 VDD, 4 GND, 5 PWM, 6 TACH, 7 CLK, 8 ALERT#

## ES8388
designator U?
SPZL000889; 名称: IC; 描述: 声卡; 封装: QFN-28-EP(4x4); 贴片和直插: SMD; 厂商: Everest-semi(顺芯); 工作温度: -40~85℃; 商品编号: SPZL000889; SuppliersPartNumber: C365736; 型号: ES8388
footprint QFN-28_L4.0-W4.0-P0.45-BL-EP
pins: 1 MCLK, 2 DVDD, 3 PVDD, 4 DGND, 5 SCLK, 6 DSDIN, 7 LRCK, 8 ASDOUT, 9 NC_9, 10 VREF, 11 ROUT1, 12 LOUT1, 13 HPGND (power), 14 ROUT2, 15 LOUT2, 16 HPVDD, 17 AVDD, 18 AGND (power), 19 ADCVREF, 20 VMID, 21 RIN2, 22 LIN2, 23 RIN1, 24 LIN1, 25 NC_25, 26 CE, 27 CDATA, 28 CCLK, 29 E-pad

## ESD BV-D505ZC
designator D?, comment BV-D505ZC
SPZL000613; 名称: ESD; 贴片和直插: SMD; 封装: SOD-523; 厂商: Bencent(槟城); 描述: Vdrm=5V Cj=15pF; 工作温度: -40~125℃; SuppliersPartNumber: C459520; 商品编号: SPZL000613; 型号: BV-D505ZC
footprint SOD-523
pins: 1, 2

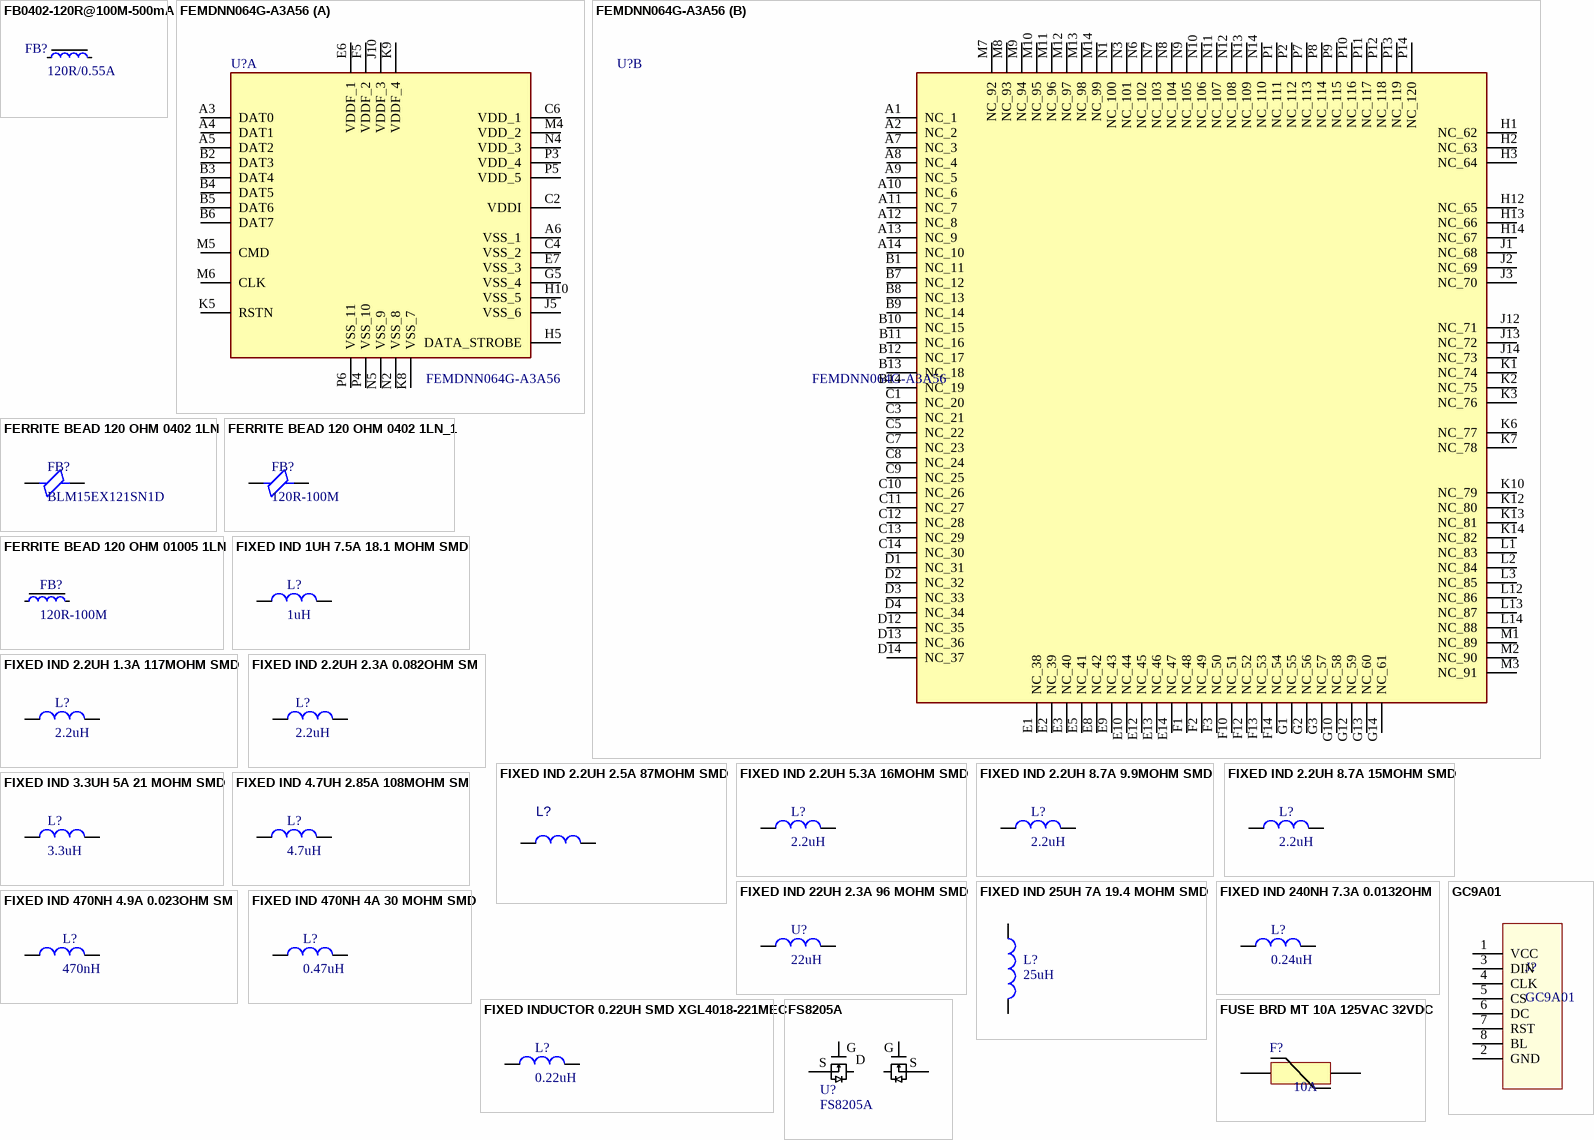
[diagram p3: symbols FB0402-120R@100M-500mA to GC9A01]

## FB0402-120R@100M-500mA
designator FB?, comment 120R/0.55A
Ferrite Bead, 120 Ohm @ 100MHz, 500mA, 250 mOhm Max; Part Number: FB0402-120R@100M-500mA; Manufacturer: Murata; Manufacturer Part Number: BLM15AG121SN1D; Part number IPS: 00000009954; Note: Chip EMIFIL Inductor Type Chip Ferrite Bead; Artikkelnr Noca: 33029317; Pad Count: 2; Footprint Doc: 0402; LatestRevisionDate: 2014-01-10; Pin Count: 2; Publisher: Nordic Semiconductor; Published: 2011-11-14; Value: 120R/0.55A; ComponentLink1Description: Datasheet; ComponentLink2Description: Supplier link; ComponentLink1URL: N.A.; ComponentLink2URL: N.A.; HelpURL: http://search.murata.co.jp/Ceramy/image/img/PDF/ENG/L0110S0100BLM15A_SN.pdf; Supplier 1: Digi-Key; Supplier Part Number 1: 490-1005-1-ND; Supplier 2: Farnell; Supplier Part Number 2: 151-5760; Component Class: Inductors; PartId: 100300099
footprint INDC1005X04L
pins: 1, 2

## FEMDNN064G-A3A56
designator U?
eMMC 64GB 4.51 HS200 Auto eMMC WD/SD; ComponentLink1Description: https://datasheet.lcsc.com/lcsc/2007011825_Samsung-KLMAG1JETD-B041_C499919.pdf; ComponentLink1URL: https://datasheet.lcsc.com/lcsc/2007011825_Samsung-KLMAG1JETD-B041_C499919.pdf
footprint BGA153C50P14X14_1150X1300X80
part A pins: A3 DAT0, A4 DAT1, A5 DAT2, A6 VSS_1, B2 DAT3, B3 DAT4, B4 DAT5, B5 DAT6, B6 DAT7, C2 VDDI, C4 VSS_2, C6 VDD_1, E6 VDDF_1, E7 VSS_3, F5 VDDF_2, G5 VSS_4, H5 DATA_STROBE, H10 VSS_5, J5 VSS_6, J10 VDDF_3, K5 RSTN, K8 VSS_7, K9 VDDF_4, M4 VDD_2, M5 CMD, M6 CLK, N2 VSS_8, N4 VDD_3, N5 VSS_9, P3 VDD_4, P4 VSS_10, P5 VDD_5, P6 VSS_11
part B pins: A1 NC_1, A2 NC_2, A7 NC_3, A8 NC_4, A9 NC_5, A10 NC_6, A11 NC_7, A12 NC_8, A13 NC_9, A14 NC_10, B1 NC_11, B7 NC_12, B8 NC_13, B9 NC_14, B10 NC_15, B11 NC_16, B12 NC_17, B13 NC_18, B14 NC_19, C1 NC_20, C3 NC_21, C5 NC_22, C7 NC_23, C8 NC_24, C9 NC_25, C10 NC_26, C11 NC_27, C12 NC_28, C13 NC_29, C14 NC_30, D1 NC_31, D2 NC_32, D3 NC_33, D4 NC_34, D12 NC_35, D13 NC_36, D14 NC_37, E1 NC_38, E2 NC_39, E3 NC_40, E5 NC_41, E8 NC_42, E9 NC_43, E10 NC_44, E12 NC_45, E13 NC_46, E14 NC_47, F1 NC_48, F2 NC_49, F3 NC_50, F10 NC_51, F12 NC_52, F13 NC_53, F14 NC_54, G1 NC_55, G2 NC_56, G3 NC_57, G10 NC_58, G12 NC_59, G13 NC_60, G14 NC_61, H1 NC_62, H2 NC_63, H3 NC_64, H12 NC_65, H13 NC_66, H14 NC_67, J1 NC_68, J2 NC_69, J3 NC_70, J12 NC_71, J13 NC_72, J14 NC_73, K1 NC_74, K2 NC_75, K3 NC_76, K6 NC_77, K7 NC_78, K10 NC_79, K12 NC_80, K13 NC_81, K14 NC_82, L1 NC_83, L2 NC_84, L3 NC_85, L12 NC_86, L13 NC_87, L14 NC_88, M1 NC_89, M2 NC_90, M3 NC_91, M7 NC_92, M8 NC_93, M9 NC_94, M10 NC_95, M11 NC_96, M12 NC_97, M13 NC_98, M14 NC_99, N1 NC_100, N3 NC_101, N6 NC_102, N7 NC_103, N8 NC_104, N9 NC_105, N10 NC_106, N11 NC_107, N12 NC_108, N13 NC_109, N14 NC_110, P1 NC_111, P2 NC_112, P7 NC_113, P8 NC_114, P9 NC_115, P10 NC_116, P11 NC_117, P12 NC_118, P13 NC_119, P14 NC_120

## FERRITE BEAD 120 OHM 0402 1LN
designator FB?, comment BLM15EX121SN1D
Ferrite Beads Multi-Layer 120Ohm 25% 100MHz 1.8A 0.075Ohm DCR 0402 Automotive T/R; Manufacturer: Murata; Number of Lines: 1; Supplier 1: Mouser; Manufacturer Part Number: BLM15EX121SN1D; RoHS: Yes; Category: Ferrite Beads and Chips; Stock 1: 29525; Pricing 1: 1=0.17, 10=0.089, 50=0.089, 100=0.062, 1000=0.045, 10000=0.039 (USD); Mount: Surface Mount; Case/Package: 0402; Case Code (Imperial): 0402; Case Code (Metric): 1005; Min Operating Temperature: -55°C; Max Operating Temperature: 125°C; Packaging: Cut Tape; Max Current Rating: 1.8A; Series: EMIFIL®, BLM15; RoHS Compliant: Yes; ComponentLink1URL: https://www.murata.com/en-us/products/productdata/8796750970910/ENFA0023.pdf?src-supplier=Digikey; ComponentLink1Description: https://www.murata.com/en-us/products/productdata/8796750970910/ENFA0023.pdf?src-supplier=Digikey; Supplier Part Number 1: 81-BLM15EX121SN1D
footprint BEADC1005X55N
pins: 1, 2

## FERRITE BEAD 120 OHM 0402 1LN_1
designator FB?, comment 120R-100M
Ferrite Beads Multi-Layer 120Ohm 25% 100MHz 1.3A 0.09Ohm DCR 0402 Automotive T/R; Manufacturer: Murata; Manufacturer Part Number: BLM15PD121SZ1D; Core Material: 228ConductorMaterial; Number of Lines: 1; Resistance: 90mR; Supplier 1: Future Electronics; RoHS: Yes; Category: Ferrite Beads and Chips; Stock 1: 200000; Pricing 1: 10000=0.0178, 30000=0.0172, 50000=0.0169, 200000=0.0162, 300000=0.0157 (USD); Mount: Surface Mount; Case/Package: 0402; Case Code (Imperial): 0402; Case Code (Metric): 1005; Min Operating Temperature: -55°C; Max Operating Temperature: 125°C; Packaging: Cut Tape; Max Current Rating: 1.3A; Series: EMIFIL®, BLM15; RMS Current (Irms): 1.3A; Series Resistance: 90mR; Test Frequency: 100MHz; Tolerance: 25%; Height: 550um; Ratings: AEC-Q200; RoHS Compliant: Yes; ComponentLink1URL: https://www.murata.com/en-us/products/productdata/8796748677150/QNFA9118.pdf?src-supplier=Digikey; ComponentLink1Description: https://www.murata.com/en-us/products/productdata/8796748677150/QNFA9118.pdf?src-supplier=Digikey; Supplier Part Number 1: 4145084
footprint BEADC1005X55N
pins: 1, 2

## FERRITE BEAD 120 OHM 01005 1LN
designator FB?, comment 120R-100M
Ind Chip Bead Molded 120Ohm 25% 100MHz Ferrite 350mA 01005 Paper T/R; Manufacturer: Murata; Manufacturer Part Number: BLM02BX121SN1D; Number of Lines: 1; Supplier 1: Digikey; RoHS: Yes; Category: Ferrite Beads and Chips; Stock 1: 19715; Pricing 1: 1=0.17, 10=0.139, 25=0.108, 50=0.0896, 100=0.0772, 250=0.0618, 500=0.05562, 1000=0.04635, 5000=0.04326 (USD); Mount: Surface Mount; Case Code (Imperial): 1005; Case Code (Metric): 0402; Min Operating Temperature: -55°C; Max Operating Temperature: 125°C; Packaging: Cut Tape; Max Current Rating: 350mA; Series: BLM; RoHS Compliant: Yes; ComponentLink1URL: https://www.murata.com/en-us/products/productdata/8796742025246/ENFA0038.pdf?src-supplier=Digikey; ComponentLink1Description: https://www.murata.com/en-us/products/productdata/8796742025246/ENFA0038.pdf?src-supplier=Digikey; Supplier Part Number 1: 490-14876-1-ND
footprint INDC1005X04L
pins: 1, 2

## FIXED IND 1UH 7.5A 18.1 MOHM SMD
designator L?, comment 1uH
Inductor Power Shielded Wirewound 1uH 20% 100KHz 7.5A 18.1mOhm DCR 2020 T/R; Manufacturer: Vishay Dale; Manufacturer Part Number: IHLP2020BZER1R0M11; Series Resistance: 18.1mR; Supplier 1: Mouser; RoHS: Yes; Category: Fixed Inductors; Stock 1: 302; Pricing 1: 1=1.15, 10=0.853, 50=0.853, 100=0.653, 1000=0.555, 10000=0.474 (USD); ComponentLink1URL: https://datasheet.ciiva.com/11798/0900766b8102c92e-11798341.pdf?src-supplier=Rs; ComponentLink1Description: https://datasheet.ciiva.com/11798/0900766b8102c92e-11798341.pdf?src-supplier=Rs; ComponentLink2URL: https://datasheet.ciiva.com/8017/1854284-8017179.pdf?src-supplier=Element14; ComponentLink2Description: https://datasheet.ciiva.com/8017/1854284-8017179.pdf?src-supplier=Element14; ComponentLink3URL: https://datasheet.ciiva.com/1051/lp20bz11-1051812.pdf?src-supplier=Digikey; ComponentLink3Description: https://datasheet.ciiva.com/1051/lp20bz11-1051812.pdf?src-supplier=Digikey; ComponentLink4URL: https://datasheet.ciiva.com/1051/lp20bz11-1051810.pdf?src-supplier=Digikey; ComponentLink4Description: https://datasheet.ciiva.com/1051/lp20bz11-1051810.pdf?src-supplier=Digikey; ComponentLink5URL: https://datasheet.ciiva.com/1051/lp20bz11-1051811.pdf?src-supplier=Digikey; ComponentLink5Description: https://datasheet.ciiva.com/1051/lp20bz11-1051811.pdf?src-supplier=Digikey; ComponentLink6URL: https://datasheet.ciiva.com/16299/lp20bz11-16299285.pdf?src-supplier=Future+Electronics; ComponentLink6Description: https://datasheet.ciiva.com/16299/lp20bz11-16299285.pdf?src-supplier=Future+Electronics; Supplier Part Number 1: 70-IHLP2020BZER1R0M1
footprint IND_IHLP-2020BZ_VIS
pins: 1, 2

## FIXED IND 2.2UH 1.3A 117MOHM SMD
designator L?, comment 2.2uH
Inductor Power Shielded Multi-Layer 2.2uH 20% 2MHz Ferrite 1.3A 0.117Ohm DCR 1008 T/R; Manufacturer: TDK; Manufacturer Part Number: MLP2520H2R2MT0S1; Supplier 1: Avnet; RoHS: Yes; Category: Fixed Inductors; Stock 1: 3000; Pricing 1: 3000=0.09954, 6000=0.09786, 12000=0.09618, 18000=0.09169, 24000=0.09006 (USD); ComponentLink1URL: https://datasheet.ciiva.com/41811/inductor-commercial-power-mlp-en-41811261.pdf?src-supplier=Digikey; ComponentLink1Description: https://datasheet.ciiva.com/41811/inductor-commercial-power-mlp-en-41811261.pdf?src-supplier=Digikey; ComponentLink2URL: https://datasheet.ciiva.com/41811/inductor-commercial-power-mlp-en-41811356.pdf?src-supplier=Digikey; ComponentLink2Description: https://datasheet.ciiva.com/41811/inductor-commercial-power-mlp-en-41811356.pdf?src-supplier=Digikey; ComponentLink3URL: https://datasheet.ciiva.com/41813/inductor-commercial-power-mlp-en-41813503.pdf?src-supplier=Digikey; ComponentLink3Description: https://datasheet.ciiva.com/41813/inductor-commercial-power-mlp-en-41813503.pdf?src-supplier=Digikey; Supplier Part Number 1: MLP2520H2R2MT0S1
footprint INDC2520X120N
pins: 1, 2

## FIXED IND 2.2UH 2.3A 0.082OHM SM
designator L?, comment 2.2uH
Inductor Power Chip Shielded Wirewound 2.2uH 20% 1MHz Metal 2.3A 0.082Ohm DCR 1008 T/R; Manufacturer: Murata; Manufacturer Part Number: DFE252012F-2R2M=P2; Supplier 1: Mouser; RoHS: Yes; Category: Fixed Inductors; Stock 1: 44812; Pricing 1: 1=0.33, 10=0.256, 50=0.256, 100=0.191, 1000=0.141, 10000=0.125 (USD); ComponentLink1URL: http://www.farnell.com/datasheets/2616790.pdf?src-supplier=Farnell; ComponentLink1Description: http://www.farnell.com/datasheets/2616790.pdf?src-supplier=Farnell; ComponentLink2URL: https://www.murata.com/~/media/webrenewal/products/inductor/chip/tokoproducts/wirewoundmetalalloychiptype/m_dfe252012f.ashx?src-supplier=Digikey; ComponentLink2Description: https://www.murata.com/~/media/webrenewal/products/inductor/chip/tokoproducts/wirewoundmetalalloychiptype/m_dfe252012f.ashx?src-supplier=Digikey; ComponentLink3URL: https://datasheet.octopart.com/DFE252012F-2R2M%3DP2-Murata-datasheet-117010004.pdf?src-supplier=Future+Electronics; ComponentLink3Description: https://datasheet.octopart.com/DFE252012F-2R2M%3DP2-Murata-datasheet-117010004.pdf?src-supplier=Future+Electronics; ComponentLink4URL: https://datasheet.octopart.com/DFE252012F-2R2M%3DP2-Murata-datasheet-142691300.pdf?src-supplier=Arrow.cn; ComponentLink4Description: https://datasheet.octopart.com/DFE252012F-2R2M%3DP2-Murata-datasheet-142691300.pdf?src-supplier=Arrow.cn; Supplier Part Number 1: 81-DFE252012F-2R2MP2
footprint INDC2520X120N
pins: 1, 2

## FIXED IND 2.2UH 2.5A 87MOHM SMD
designator L?, comment CIGT201610EH2R2MNE  (value not drawn)
CIGT201610EH2R2MNE 2.2µH Unshielded Thin Film Inductor 2.5A 87mOhm Max 0806 (2016 Metric)
footprint CIGT201610EH2R2MNE (CIGT201610EH2R2MNE 2.2µH Unshielded Thin Film Inductor 2.5A 87mOhm Max 0806 (2016 Metric))
pins: 1, 2

## FIXED IND 2.2UH 5.3A 16MOHM SMD
designator L?, comment 2.2uH
Inductor Power Shielded Wirewound 2.2uH 30% 100KHz Ferrite 5.3A 0.0192Ohm DCR 2424 T/R; Manufacturer: Murata; Manufacturer Part Number: 1264EY-2R2N=P3; Current Rating: 7.8A; DC Resistance (DCR): 19.2mR; Supplier 1: Mouser; RoHS: Yes; Category: Fixed Inductors; Stock 1: 431; Pricing 1: 1=0.42, 10=0.334, 50=0.334, 100=0.28, 1000=0.245, 10000=0.222 (USD); Mount: Surface Mount; Case/Package: Nonstandard; Core Material: Ferrite; Packaging: Cut Tape; Inductance: 2.2uH; Shielding: Shielded; Test Frequency: 100kHz; Max DC Current: 5.3A; Tolerance: 30%; Series: DG6050C; Length: 0.248inch; Width: 0.248inch; Height - Seated (Max): 0.198inch; RoHS Compliant: Yes; ComponentLink1URL: http://www.toko.co.jp/products/pdf/inductors/dg6050c.pdf?src-supplier=Digikey; ComponentLink1Description: http://www.toko.co.jp/products/pdf/inductors/dg6050c.pdf?src-supplier=Digikey; ComponentLink2URL: http://search.murata.co.jp/Ceramy/image/img/P02/J(E)TE243B-0044_DG6050C_reference.pdf?src-supplier=Digikey; ComponentLink2Description: http://search.murata.co.jp/Ceramy/image/img/P02/J(E)TE243B-0044_DG6050C_reference.pdf?src-supplier=Digikey; ComponentLink3URL: http://www.toko.co.jp/products/pdf/inductors/dg6050c.pdf?src-supplier=Avnet; ComponentLink3Description: http://www.toko.co.jp/products/pdf/inductors/dg6050c.pdf?src-supplier=Avnet; Supplier Part Number 1: 81-1264EY-2R2NP3
footprint IND_1264EY-2R2N=P3
pins: 1, 2

## FIXED IND 2.2UH 8.7A 9.9MOHM SMD
designator L?, comment 2.2uH
Inductor Power Shielded Wirewound 2.2uH 30% 100KHz Ferrite 8.7A 9.9mOhm DCR 3131 T/R; Manufacturer: Murata; Manufacturer Part Number: DD1217AS-H-2R2N=P3; Saturation Current: 12.4A; DC Resistance (DCR): 9.9mR; Supplier 1: Mouser; RoHS: Yes; Category: Fixed Inductors; Stock 1: 748; Pricing 1: 1=0.8, 10=0.577, 50=0.577, 100=0.416, 1000=0.361, 10000=0.328 (USD); Mount: Surface Mount; Case/Package: Nonstandard; Core Material: Ferrite; Packaging: Cut Tape; Inductance: 2.2uH; Current Rating: 8.7A; Shielding: Shielded; Test Frequency: 100kHz; Tolerance: 30%; Series: DEM8045C; Length: 0.315inch; Width: 0.315inch; Height - Seated (Max): 0.177inch; RoHS Compliant: Yes; ComponentLink1URL: https://media.digikey.com/pdf/Data%20Sheets/Murata%20PDFs/DEM8045C_Series.pdf?src-supplier=Digikey; ComponentLink1Description: https://media.digikey.com/pdf/Data%20Sheets/Murata%20PDFs/DEM8045C_Series.pdf?src-supplier=Digikey; ComponentLink2URL: http://search.murata.co.jp/Ceramy/image/img/P02/J(E)TE243B-0036_DEM8045C(DD)_reference.pdf?src-supplier=Digikey; ComponentLink2Description: http://search.murata.co.jp/Ceramy/image/img/P02/J(E)TE243B-0036_DEM8045C(DD)_reference.pdf?src-supplier=Digikey; Supplier Part Number 1: 81-DD1217AS-H-2R2NP3
pins: 1, 2

## FIXED IND 2.2UH 8.7A 15MOHM SMD
designator L?, comment 2.2uH
footprint IND_XGL4030_COC
pins: 1, 2

## FIXED IND 3.3UH 5A 21 MOHM SMD
designator L?, comment 3.3uH
Ind Power Semi-Shielded Wirewound 3.3uH ±30% 1MHz 15 Q-Factor Ferrite 5A T/R; Manufacturer: Bourns; Manufacturer Part Number: SRN6045TA-3R3Y; Supplier 1: Avnet; RoHS: Yes; Category: Fixed Inductors; Stock 1: 698; Pricing 1: 1=0.57, 10=0.394, 25=0.362, 50=0.329, 100=0.296 (USD); ComponentLink1URL: http://www.farnell.com/datasheets/2647414.pdf?src-supplier=Farnell; ComponentLink1Description: http://www.farnell.com/datasheets/2647414.pdf?src-supplier=Farnell; ComponentLink2URL: https://www.bourns.com/docs/Product-Datasheets/SRN6045TA.pdf?src-supplier=Digikey; ComponentLink2Description: https://www.bourns.com/docs/Product-Datasheets/SRN6045TA.pdf?src-supplier=Digikey; ComponentLink3URL: http://www.farnell.com/datasheets/2647414.pdf?src-supplier=Newark; ComponentLink3Description: http://www.farnell.com/datasheets/2647414.pdf?src-supplier=Newark; ComponentLink4URL: http://www.farnell.com/datasheets/2113223.pdf?src-supplier=Element14; ComponentLink4Description: http://www.farnell.com/datasheets/2113223.pdf?src-supplier=Element14; Supplier Part Number 1: 94Y3550
footprint SRN6045TA
pins: 1, 2

## FIXED IND 4.7UH 2.85A 108MOHM SM
designator L?, comment 4.7uH
Inductor Power Shielded Wirewound 4.7uH 20% 1MHz Metal 2.85A 0.108Ohm DCR 1515 T/R; Manufacturer: Sunlord; Manufacturer Part Number: WPN4020H4R7MT; Supplier 1: Digikey; RoHS: Yes; Category: Fixed Inductors; Stock 1: 449; Pricing 1: 1=0.71, 10=0.606, 25=0.5556, 50=0.505, 100=0.4494, 250=0.4242, 500=0.3636, 1000=0.3232 (USD); Supplier Part Number 1: 3442-WPN4020H4R7MTCT-ND
footprint IND_IFSC_1515AH_VIS
pins: 1, 2